# EAGLE library part JS202011CQN (library CASE-Switches)
C&K JS202011CQN and CQN Slide DPDT switches (DIP) Description: C&K JS202011CQN (Vertical) and AQN (Angled) Slide DPDT switches in DIP package. Links: JS202011CQN <http://www.farnell.com/datasheets/2674788.pdf?_ga=2.70981651.2071720333.1546461288-1112771566.1525371275> JS202011AQN <http://www.farnell.com/datasheets/2674788.pdf?_ga=2.74004369.2071720333.1546461288-1112771566.1525371275>
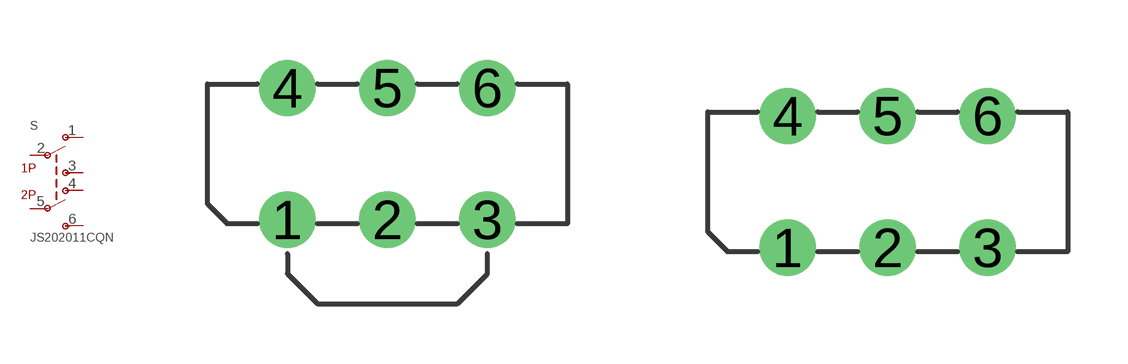
[diagram p3: symbol with the pads of JS202011AQN; footprints JS202011AQN, JS202011CQN]

Designator prefix S

## JS202011CQNJS202011AQN  [JS202011AQN]
1  1  pas
2  2  pas
3  3  pas
4  4  pas
5  5  pas
6  6  pas

## JS202011CQNJS202011CQN  [JS202011CQN]
Pads as for JS202011AQN

## Footprint JS202011AQN (pad centres in mm)
Links: Datasheet <http://www.farnell.com/datasheets/2674788.pdf?_ga=2.74004369.2071720333.1546461288-1112771566.1525371275>
drill 0.9: 1 -2.5,-1.65; 2 0,-1.65; 3 2.5,-1.65; 4 -2.5,1.65; 5 0,1.65; 6 2.5,1.65

## Footprint JS202011CQN (pad centres in mm)
Links: Datasheet <http://www.farnell.com/datasheets/2674788.pdf?_ga=2.70981651.2071720333.1546461288-1112771566.1525371275>
drill 0.9: 1 -2.5,-1.65; 2 0,-1.65; 3 2.5,-1.65; 4 -2.5,1.65; 5 0,1.65; 6 2.5,1.65